# EAGLE library part M68030QFP (library 030Card)
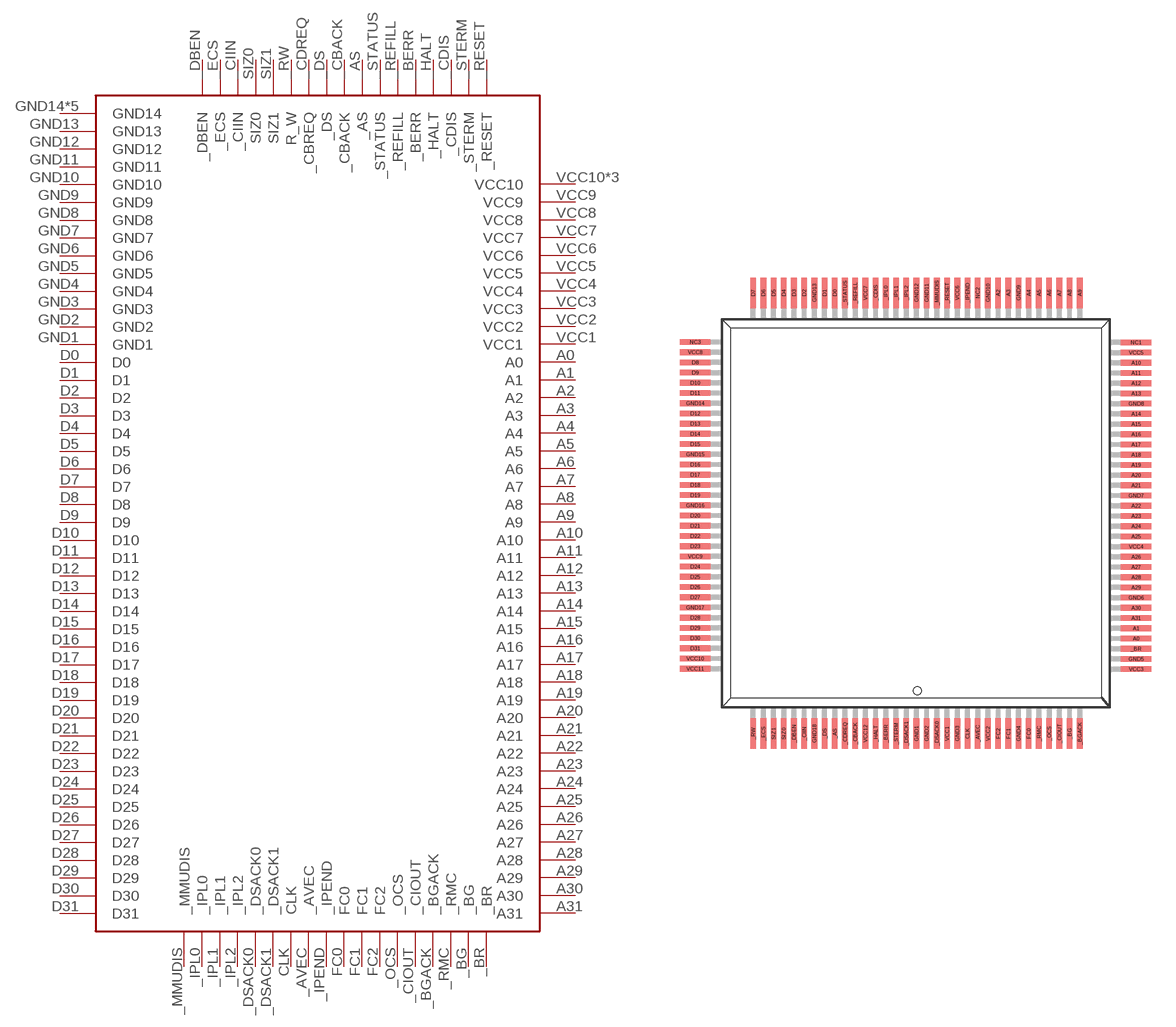
[diagram p2: symbol with the pads of M68030QFP; footprint M68030QFP]

Designator prefix -

## M68030QFP  [M68030QFP]
_AS  _AS
_AVEC  _AVEC
_BERR  _BERR
_BG  _BG
_BGACK  _BGACK
_BR  _BR
_CBACK  _CBACK
_CDIS  _CDIS
_CDREQ  _CBREQ
_CIIN  _CIIN
_CIOUT  _CIOUT
_DBEN  _DBEN
_DS  _DS
_DSACK0  _DSACK0
_DSACK1  _DSACK1
_ECS  _ECS
_HALT  _HALT
_IPEND  _IPEND
_IPL0  _IPL0
_IPL1  _IPL1
_IPL2  _IPL2
_MMUDIS  _MMUDIS
_OCS  _OCS
_REFILL  _REFILL
_RESET  _RESET
_RMC  _RMC
_RW  R_W
_STATUS  _STATUS
_STERM  _STERM
A0  A0
A1  A1
A2  A2
A3  A3
A4  A4
A5  A5
A6  A6
A7  A7
A8  A8
A9  A9
A10  A10
A11  A11
A12  A12
A13  A13
A14  A14
A15  A15
A16  A16
A17  A17
A18  A18
A19  A19
A20  A20
A21  A21
A22  A22
A23  A23
A24  A24
A25  A25
A26  A26
A27  A27
A28  A28
A29  A29
A30  A30
A31  A31
CLK  CLK
D0  D0
D1  D1
D2  D2
D3  D3
D4  D4
D5  D5
D6  D6
D7  D7
D8  D8
D9  D9
D10  D10
D11  D11
D12  D12
D13  D13
D14  D14
D15  D15
D16  D16
D17  D17
D18  D18
D19  D19
D20  D20
D21  D21
D22  D22
D23  D23
D24  D24
D25  D25
D26  D26
D27  D27
D28  D28
D29  D29
D30  D30
D31  D31
FC0  FC0
FC1  FC1
FC2  FC2
GND1  GND1
GND2  GND2
GND3  GND3
GND4  GND4
GND5  GND5
GND6  GND6
GND7  GND7
GND8  GND8
GND9  GND9
GND10  GND10
GND11  GND11
GND12  GND12
GND13  GND13
GND14  GND14
GND15  GND14
GND16  GND14
GND17  GND14
GND18  GND14
SIZ0  SIZ0
SIZ1  SIZ1
VCC1  VCC1
VCC2  VCC2
VCC3  VCC3
VCC4  VCC4
VCC5  VCC5
VCC6  VCC6
VCC7  VCC7
VCC8  VCC8
VCC9  VCC9
VCC10  VCC10
VCC11  VCC10
VCC12  VCC10

## Footprint M68030QFP (pad centres in mm)
Quad Flat Pack
smd 0.356 x 1.905: _AS -5.131,-13.64; _AVEC 3.759,-13.64; _BERR -1.956,-13.64; _BG 9.474,-13.64; _BGACK 10.109,-13.64; _CBACK -3.861,-13.64; _CDIS -2.591,13.767; _CDREQ -4.496,-13.64; _CIIN -7.036,-13.64; _CIOUT 8.839,-13.64; _DBEN -7.671,-13.64; _DS -5.766,-13.64; _DSACK0 1.219,-13.64; _DSACK1 -0.686,-13.64; _ECS -9.576,-13.64; _HALT -2.591,-13.64; _IPEND 3.124,13.767; _IPL0 -1.956,13.767; _IPL1 -1.321,13.767; _IPL2 -0.686,13.767; _MMUDIS 1.219,13.767; _OCS 8.204,-13.64; _REFILL -3.861,13.767; _RESET 1.854,13.767; _RMC 7.569,-13.64; _RW -10.211,-13.64; _STATUS -4.496,13.767; _STERM -1.321,-13.64; A2 5.029,13.767; A3 5.664,13.767; A4 6.934,13.767; A5 7.569,13.767; A6 8.204,13.767; A7 8.839,13.767; A8 9.474,13.767; A9 10.109,13.767; CLK 3.124,-13.64; D0 -5.131,13.767; D1 -5.766,13.767; D2 -7.036,13.767; D3 -7.671,13.767; D4 -8.306,13.767; D5 -8.941,13.767; D6 -9.576,13.767; D7 -10.211,13.767; FC0 6.934,-13.64; FC1 5.664,-13.64; FC2 5.029,-13.64; GND1 -0.051,-13.64; GND2 0.584,-13.64; GND3 2.489,-13.64; GND4 6.299,-13.64; GND9 6.299,13.767; GND10 4.394,13.767; GND11 0.584,13.767; GND12 -0.051,13.767; GND13 -6.401,13.767; GND18 -6.401,-13.64; NC2 3.759,13.767; SIZ0 -8.306,-13.64; SIZ1 -8.941,-13.64; VCC1 1.854,-13.64; VCC2 4.394,-13.64; VCC6 2.489,13.767; VCC7 -3.226,13.767; VCC12 -3.226,-13.64
smd 1.905 x 0.356: _BR 13.614,-8.357; A0 13.614,-7.722; A1 13.614,-7.087; A10 13.614,9.423; A11 13.614,8.788; A12 13.614,8.153; A13 13.614,7.518; A14 13.614,6.248; A15 13.614,5.613; A16 13.614,4.978; A17 13.614,4.343; A18 13.614,3.708; A19 13.614,3.073; A20 13.614,2.438; A21 13.614,1.803; A22 13.614,0.533; A23 13.614,-0.102; A24 13.614,-0.737; A25 13.614,-1.372; A26 13.614,-2.642; A27 13.614,-3.277; A28 13.614,-3.912; A29 13.614,-4.547; A30 13.614,-5.817; A31 13.614,-6.452; D8 -13.818,9.449; D9 -13.818,8.814; D10 -13.818,8.179; D11 -13.818,7.544; D12 -13.818,6.274; D13 -13.818,5.639; D14 -13.818,5.004; D15 -13.818,4.369; D16 -13.818,3.099; D17 -13.818,2.464; D18 -13.818,1.829; D19 -13.818,1.194; D20 -13.818,-0.076; D21 -13.818,-0.711; D22 -13.818,-1.346; D23 -13.818,-1.981; D24 -13.818,-3.251; D25 -13.818,-3.886; D26 -13.818,-4.521; D27 -13.818,-5.156; D28 -13.818,-6.426; D29 -13.818,-7.061; D30 -13.818,-7.696; D31 -13.818,-8.331; GND5 13.614,-8.992; GND6 13.614,-5.182; GND7 13.614,1.168; GND8 13.614,6.883; GND14 -13.818,6.909; GND15 -13.818,3.734; GND16 -13.818,0.559; GND17 -13.818,-5.791; NC1 13.614,10.693; NC3 -13.818,10.719; VCC3 13.614,-9.627; VCC4 13.614,-2.007; VCC5 13.614,10.058; VCC8 -13.818,10.084; VCC9 -13.818,-2.616; VCC10 -13.818,-8.966; VCC11 -13.818,-9.601